# Altium footprint library Lib Marius.PcbLib: 393 footprints (part 3 of 25)
Each footprint in its own frame and in the unit in brackets; x right, y up, seen from the top. Pads: shape width x height; smd on the part's side, far side on the other; paste and mask are expansions set on the pad; w line width, h text height; cw(c..) or ccw(c..) is an arc to the next point about the centre after c.
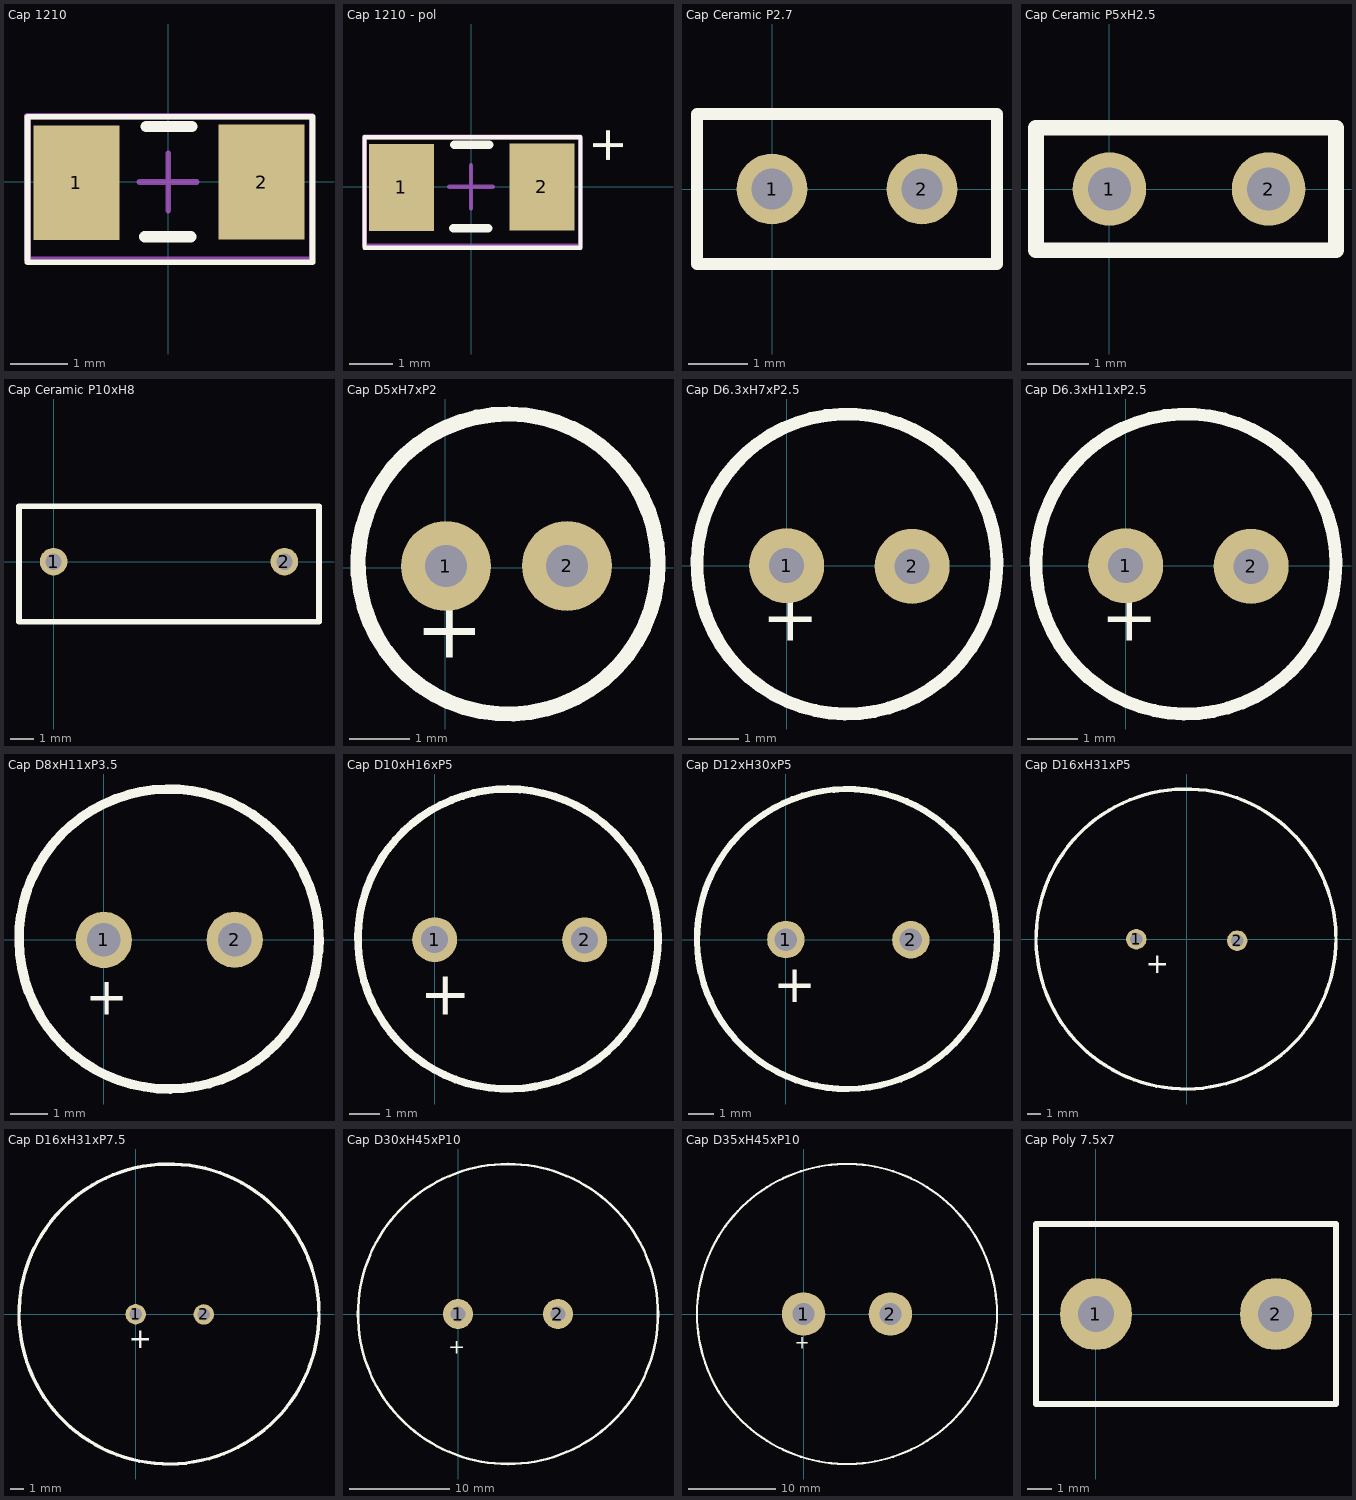
[diagram p2: the footprints below, top view; thin cyan lines are the x and y axes]

## Cap 1210 [mm] "Capacitor 1210"
height 0.5
pads (2):
  rect 1.5x2 smd: 1(-1.601,-0.013) 2(1.63,-0.003)
Top Overlay:
  lines w0.1: -2.451,-1.4 2.518,-1.4 2.518,1.137 -2.451,1.137 -2.451,-1.4
  lines w0.2: -0.41,-0.954 0.39,-0.954 ; -0.385,0.966 0.415,0.966
Mechanical 13:
  lines w0.1: -2.461,-1.35 -2.461,1.152 2.508,1.152 2.508,-1.35 -2.461,-1.35
Mechanical 15:
  lines w0.1: -0.5,0 0.5,0 ; 0,-0.5 0,0.5 ; -2.441,-1.4 -2.441,1.137 2.508,1.137 2.508,-1.4 -2.441,-1.4
3D body "Cap 1206.STEP": height 1.53, standoff 0, extent -2,-0.8 2,0.8

## Cap 1210 - pol [mm] "Capacitor 1210"
height 0.5
pads (2):
  rect 1.5x2 smd: 1(-1.601,-0.013) 2(1.63,-0.003)
Top Overlay:
  lines w0.1: -2.451,-1.4 -2.451,1.137 2.518,1.137 2.518,-1.4 -2.451,-1.4
  lines w0.2: -0.41,-0.954 0.39,-0.954 ; -0.385,0.966 0.415,0.966
  text "+" at 3.5,0.5 h0.8
Mechanical 13:
  lines w0.1: -2.461,-1.35 2.508,-1.35 2.508,1.152 -2.461,1.152 -2.461,-1.35
Mechanical 15:
  lines w0.1: -0.5,0 0.5,0 ; 0,-0.5 0,0.5 ; -2.441,-1.4 2.508,-1.4 2.508,1.137 -2.441,1.137 -2.441,-1.4
3D body "Cap 1206.STEP": height 1.53, standoff 0, extent -2,-0.8 2,0.8

## Cap Ceramic P2.7 [mm] "Capacitor Ceramic"
pads (2):
  round 1.2 hole 0.7: 1(0,0) 2(2.54,0)
Top Overlay:
  lines w0.2: -1.27,-1.27 3.81,-1.27 3.81,1.27 -1.27,1.27 -1.27,-1.27
3D body "Cap Ceramic 5x4mm.step": height 5.46, standoff -3.5, extent -0.959,-1 3.959,1

## Cap Ceramic P5xH2.5 [mm] "Capacitor Ceramic"
pads (2):
  round 1.2 hole 0.7: 1(0,0) 2(2.6,0)
Top Overlay:
  lines w0.254: -1.2,-1 -1.2,1 3.7,1 3.7,-1 -1.2,-1
3D body "Cap Ceramic 5x4mm.step": height 5.46, standoff -3.5, extent -1.159,-1 3.759,1

## Cap Ceramic P10xH8 [mm] "Capacitor Ceramic"
pads (2):
  round 1.2 hole 0.7: 1(0,0) 2(10,0)
Top Overlay:
  lines w0.254: -1.5,-2.6 11.5,-2.6 11.5,2.4 -1.5,2.4 -1.5,-2.6
3D body "Cap Ceramic P10.STEP": height 13.5, standoff -5, extent -1.5,-2.6 11.5,2.4

## Cap D5xH7xP2 [mm] "Capacitor Electro"
height 5.46
pads (2):
  round 1.5 hole 0.7: 1(0.012,0.028) 2(2.029,0.032)
Top Overlay:
  lines w0.254: 3.545,0.122 ccw(c1.045,0.064) 3.545,0.074
  text "+" at -0.5,-1.5 h1
3D body "Cap electro 5x11x2mm.STEP": height 11.53, standoff -3.27, extent -1.513,-2.546 3.538,2.504

## Cap D6.3xH7xP2.5 [mm] "Capacitor Electro"
height 5.46
pads (2):
  round 1.5 hole 0.7: 1(0,0) 2(2.509,-0.013)
Top Overlay:
  lines w0.254: 4.206,0.101 ccw(c1.207,0.034) 4.207,0.05
  text "+" at -0.5,-1.5 h1
3D body "Cap electro 6.3x7x2.5mm.STEP": height 7.53, standoff -3.01, extent -1.952,-3.223 4.399,3.128

## Cap D6.3xH11xP2.5 [mm] "Capacitor Electro"
height 5.46
pads (2):
  round 1.5 hole 0.7: 1(0,0) 2(2.509,-0.013)
Top Overlay:
  lines w0.254: 4.206,0.101 ccw(c1.207,0.034) 4.207,0.05
  text "+" at -0.5,-1.5 h1
3D body "Cap electro 6.3x11x2.5mm.STEP": height 11.53, standoff -1.8, extent -1.952,-3.223 4.399,5.952

## Cap D8xH11xP3.5 [mm] "Capacitor Electro"
height 5.46
pads (2):
  round 1.5 hole 0.9: 1(0,0) 2(3.49,0.005)
Top Overlay:
  lines w0.254: 5.738,0.044 cw(c1.738,0.023) 5.737,0.112
  text "+" at -0.5,-2 h1
3D body "Cap electro 8x11.5x3.5mm.STEP": height 12.03, standoff -3.48, extent -2.274,-4.076 5.777,3.975

## Cap D10xH16xP5 [mm] "Capacitor Electro"
height 5.46
pads (2):
  round 1.5 hole 0.9: 1(0,0) 2(5,-0.011)
Top Overlay:
  lines w0.254: 7.444,0.132 ccw(c2.446,0.02) 7.446,0.047
  text "+" at -0.5,-2.5 h1.5
3D body "Cap electro 10x16x5mm.STEP": height 16.53, standoff -1.46, extent -2.567,-5.079 7.484,8.631

## Cap D12xH30xP5 [mm] "Capacitor Electro"
height 5.46
pads (2):
  round 1.5 hole 0.9: 1(0,0) 2(5,-0.011)
Top Overlay:
  lines w0.254: 8.444,0.154 ccw(c2.446,0.02) 8.446,0.052
  text "+" at -0.5,-2.5 h1.5
3D body "Cap electro  2200uF 25V.STEP": height 25.4, standoff -28.75, extent -4.1,-6.6 9.1,6.6

## Cap D16xH31xP5 [mm] "Capacitor Electro"
height 5.46
pads (2):
  round 1.5 hole 0.9: 1(-3.7,0) 2(3.7,-0.1)
Top Overlay:
  lines w0.254: 10.943,0.265 ccw(c-0.054,0.02) 10.945,0.079
  text "+" at -3,-2.5 h1.5
3D body "Cap electro 22x25.STEP": height 25, standoff 0, extent -11.041,-11.053 10.959,10.947

## Cap D16xH31xP7.5 [mm] "Capacitor Electro"
height 20
pads (2):
  round 1.5 hole 0.9: 1(0,0) 2(5,-0.011)
Top Overlay:
  lines w0.254: 13.443,0.265 ccw(c2.446,0.02) 13.445,0.079
  text "+" at -0.5,-2.5 h1.5
3D body "Cap electro 22x25.STEP": height 25, standoff 0, extent -8.541,-11.053 13.459,10.947

## Cap D30xH45xP10 [mm] "Capacitor Electro"
height 5.46
pads (2):
  round 3 hole 1.5: 1(0,0) 2(10,0)
Top Overlay:
  circle w0.254: c5,0 r15.008
  text "+" at -1,-4 h1.5
3D body "Cap electro 30x45x10.STEP": height 45.2, standoff -5, extent -12.5,-18 22.5,17

## Cap D35xH45xP10 [mm] "Capacitor Electro"
height 45
pads (2):
  round 5 hole 2.5: 1(0,0) 2(10,0)
Top Overlay:
  circle w0.254: c5,0 r17.25
  text "+" at -1,-4 h1.5
3D body "Cap Electro D35 X H45 X P10.STEP": height 45, standoff -4.62, extent -12.98,-17.4 22.58,18.16

## Cap Poly 7.5x7 [mm] "Capacitor Polyester"
height 5.46
pads (2):
  round 3 hole 1.5: 1(0,0) 2(7.5,0)
Top Overlay:
  lines w0.254: -2.5,-3.75 10,-3.75 10,3.75 -2.5,3.75 -2.5,-3.75
3D body "Cap Poly 12Lx7H.STEP": height 18.4, standoff -3, extent -2.5,-3.75 10,3.75